# Altium schematic symbol library GRM0335C1H3R9BA01D.SchLib: 1 symbol
Pins are listed as number, name and electrical type; pins without a type are passive.

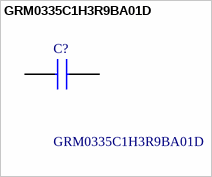
[diagram p0: symbol GRM0335C1H3R9BA01D]

## GRM0335C1H3R9BA01D
designator C?
Multilayer Ceramic Capacitors MLCC - SMD/SMT 0201 3.9pF 50volts C0G +/-0.1pF; Manufacturer_Name: Murata Electronics; Geometry.Height: 0.33mm; Manufacturer_Part_Number: GRM0335C1H3R9BA01D; Mouser Part Number: 81-GRM0335C1H3R9BA1D; Mouser Price/Stock: https://www.mouser.co.uk/ProductDetail/Murata-Electronics/GRM0335C1H3R9BA01D?qs=7vGxPDjevFPA4PAcLjuEQA%3D%3D; Arrow Part Number: GRM0335C1H3R9BA01D; Arrow Price/Stock: https://www.arrow.com/en/products/grm0335c1h3r9ba01d/murata-manufacturing; Datasheet Link: https://search.murata.co.jp/Ceramy/image/img/A01X/G101/ENG/GRM0335C1H3R9BA01-01A.pdf
footprint GRM033D70J224ME01D
pins: 1, 2